# EAGLE library part TLC6C598-Q1 (library domestichacks)
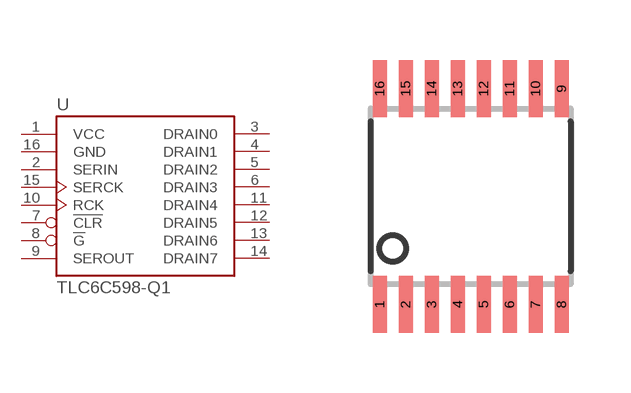
[diagram p0: symbol with the pads of TSSOP-16; footprint TSSOP-16]

Designator prefix -

## TLC6C598-Q1  [TSSOP-16]
1  VCC  in
2  SERIN  in
3  DRAIN0  out
4  DRAIN1  out
5  DRAIN2  out
6  DRAIN3  out
7  !CLR  in
8  !G  in
9  SEROUT  out
10  RCK  in
11  DRAIN4  out
12  DRAIN5  out
13  DRAIN6  out
14  DRAIN7  out
15  SERCK  in
16  GND  in

## Footprint TSSOP-16 (pad centres in mm)
smd 0.35 x 1.43: 1 -2.275,-2.7; 2 -1.625,-2.7; 3 -0.975,-2.7; 4 -0.325,-2.7; 5 0.325,-2.7; 6 0.975,-2.7; 7 1.625,-2.7; 8 2.275,-2.7; 9 2.275,2.7; 10 1.625,2.7; 11 0.975,2.7; 12 0.325,2.7; 13 -0.325,2.7; 14 -0.975,2.7; 15 -1.625,2.7; 16 -2.275,2.7